# EAGLE library part ARDUINO_MICRO (library gc1_parts)
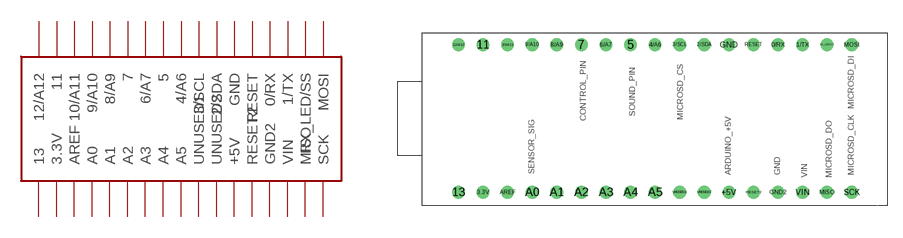
[diagram p0: symbol with the pads of ARDUINO_MICRO; footprint ARDUINO_MICRO]

Designator prefix -

## ARDUINO_MICRO  [ARDUINO_MICRO]
0/RX  0/RX
1/TX  1/TX
2/SDA  2/SDA
3.3V  3.3V
3/SCL  3/SCL
4/A6  4/A6
5  5
6/A7  6/A7
7  7
8/A9  8/A9
9/A10  9/A10
10/A11  10/A11
11  11
12/A12  12/A12
13  13
+5V  +5V
A0  A0
A1  A1
A2  A2
A3  A3
A4  A4
A5  A5
AREF  AREF
GND  GND
GND2  GND2
MISO  MISO
MOSI  MOSI
RESET  RESET
RESET2  RESET2
RX_LED/SS  RX_LED/SS
SCK  SCK
UNUSED1  UNUSED1
UNUSED2  UNUSED2
VIN  VIN

## Footprint ARDUINO_MICRO (pad centres in mm)
drill 0.8: 0/RX 33.02,0; 1/TX 35.56,0; 2/SDA 25.4,0; 3.3V 2.54,-15.24; 3/SCL 22.86,0; 4/A6 20.32,0; 5 17.78,0; 6/A7 15.24,0; 7 12.7,0; 8/A9 10.16,0; 9/A10 7.62,0; 10/A11 5.08,0; 11 2.54,0; 12/A12 0,0; 13 0,-15.24; +5V 27.94,-15.24; A0 7.62,-15.24; A1 10.16,-15.24; A2 12.7,-15.24; A3 15.24,-15.24; A4 17.78,-15.24; A5 20.32,-15.24; AREF 5.08,-15.24; GND 27.94,0; GND2 33.02,-15.24; MISO 38.1,-15.24; MOSI 40.64,0; RESET 30.48,0; RESET2 30.48,-15.24; RX_LED/SS 38.1,0; SCK 40.64,-15.24; UNUSED1 22.86,-15.24; UNUSED2 25.4,-15.24; VIN 35.56,-15.24